# Altium footprint library Custom pcb footprint.PcbLib: 87 footprints (part 2 of 6)
Each footprint in its own frame and in the unit in brackets; x right, y up, seen from the top. Pads: shape width x height; smd on the part's side, far side on the other; paste and mask are expansions set on the pad; w line width, h text height; cw(c..) or ccw(c..) is an arc to the next point about the centre after c.
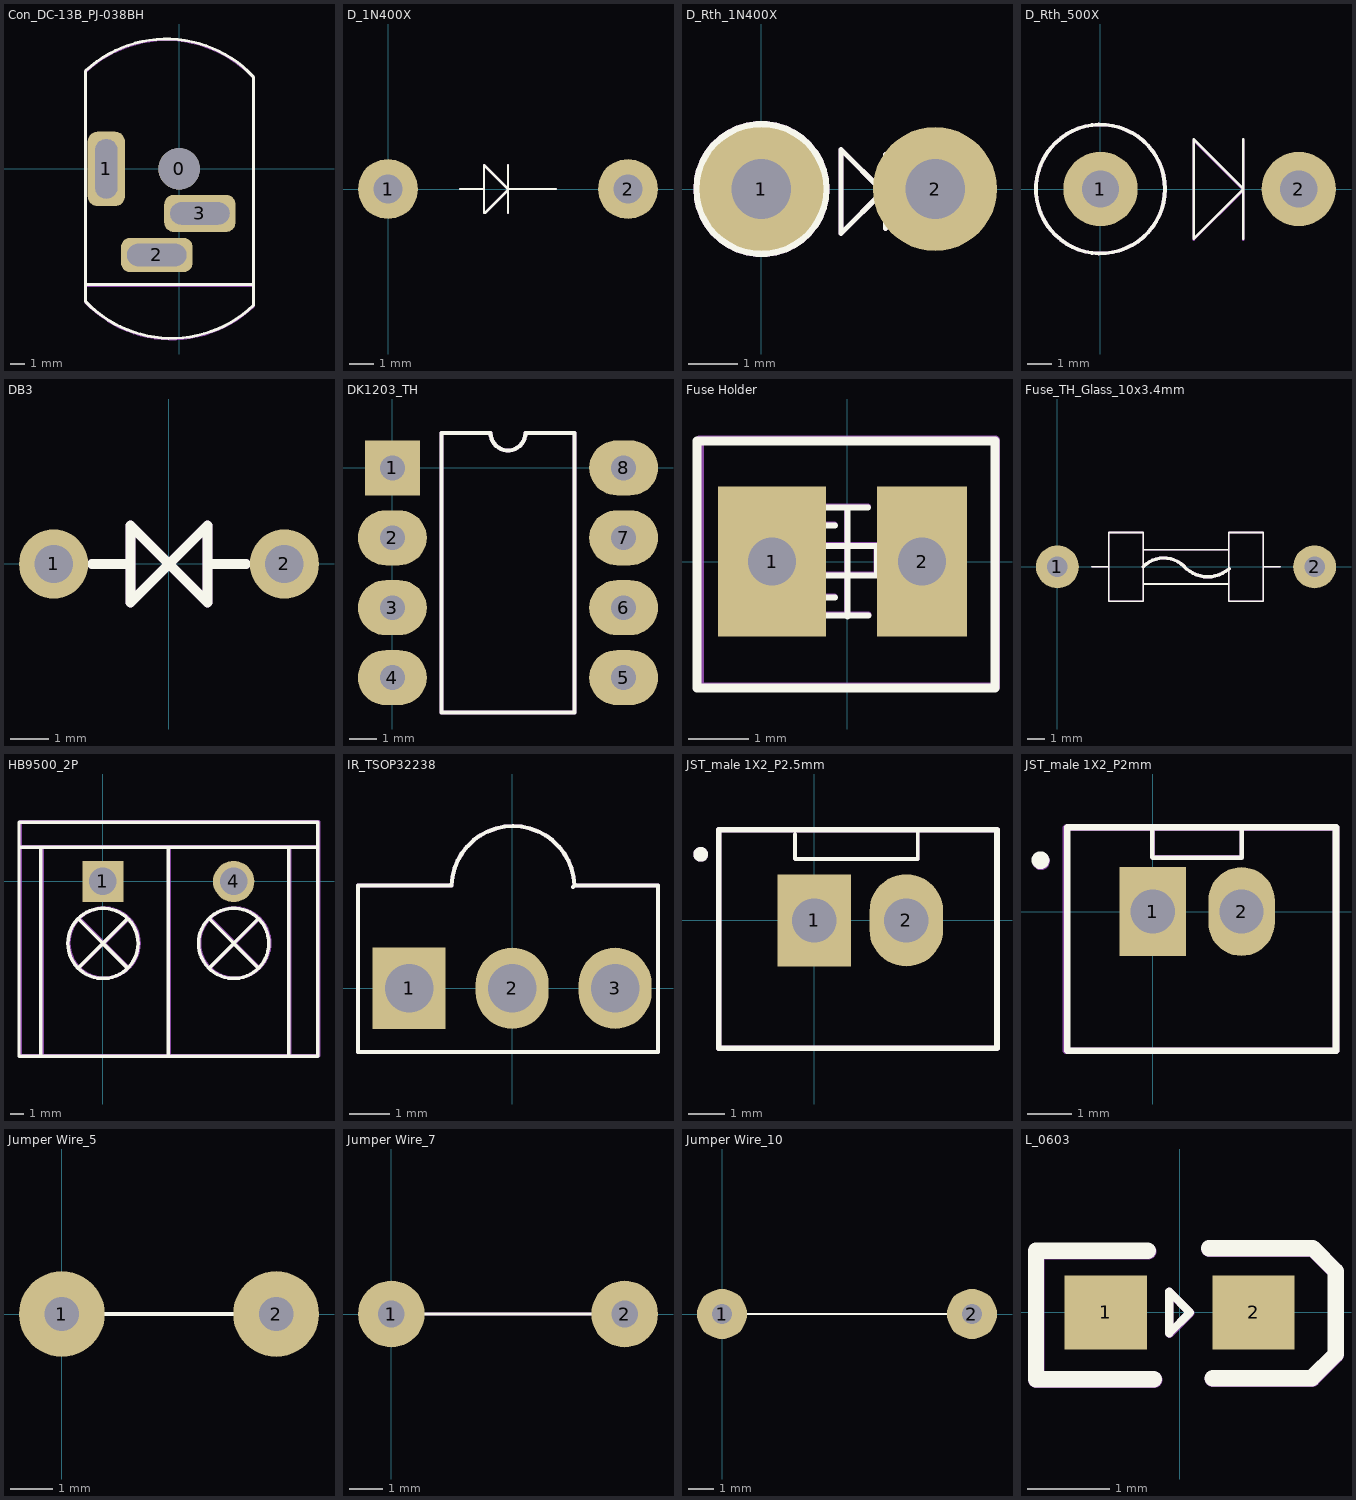
[diagram p1: the footprints below, top view; thin cyan lines are the x and y axes]

## Con_DC-13B_PJ-038BH [mm]
pads (4):
  round 2.8 hole 2.8: 0(0,0)
  rrect50% 2.5x5 hole 1.5 slot 4 at 90 deg: 1(-4.9,0)
  rrect50% 4.8x2.3 hole 1.5 slot 4 at 0 deg: 2(-1.5,-5.8)
  rrect50% 4.8x2.5 hole 1.5 slot 4 at 0 deg: 3(1.4,-3)
Top Overlay:
  lines w0.2: -6.2,-7.8 5,-7.8 ; -6.288,-8.94 ccw(c-0.514,-3.426) 5,-9.2 5,6.2 ccw(c-0.844,0.756) -6.288,6.6 -6.288,-8.94
Top Assembly:
  lines w0.2: -6.193,-7.846 5.007,-7.846 ; -6.281,-8.986 ccw(c-0.507,-3.472) 5.007,-9.246 5.007,6.154 ccw(c-0.837,0.71) -6.281,6.554 -6.281,-8.986
  text "'.Designator'" at -4.85,4.617 h0.8
3D body "Con_DC-13B_PJ-038BH.step": height 13.8, standoff -4, extent -5.2,-11.3 4.4,8.8

## D_1N400X [mm] "1N400X genral diode"
pads (2):
  round 2.5 hole 1.2: 1(0,0) 2(10,0)
Top Overlay:
  lines w0.1: 3,0 4,0 ; 5,-1 5,1 ; 7,0 5,0 ; 5,0 5,-0.039 4.039,-1 4,-1 4,1 5,0
Top Assembly:
  lines w0.1: 3,0 4,0 ; 5,-1 5,1 ; 7,0 5,0 ; 5,0 5,-0.039 4.039,-1 4,-1 4,1 5,0
  text "'.Designator'" at 4.736,-0.226 h0.8
3D body "1N4007.step": height 3, standoff -1.92, extent -0.43,-1.357 10.43,1.357

## D_Rth_1N400X [mm]
pads (2):
  round 2.5 hole 1.2: 1(0,0) 2(3.5,0)
Top Overlay:
  circle w0.15: c0,0 r1.3
  lines w0.1: 2.5,-0.8 2.5,0.7 ; 1.6,-0.9 2.45,-0.05 1.6,0.8 1.6,-0.9
Top Assembly:
  circle w0.15: c0,0 r1.3
  lines w0.1: 2.5,-0.8 2.5,0.7 ; 1.6,-0.9 2.45,-0.05 1.6,0.8 1.6,-0.9
  text "'.Designator'" at 2.338,-1.665 h0.8
3D body "D_Rth_1N400X.step": height 8.34, standoff -2, extent -1.24,-1.248 3.908,1.248

## D_Rth_500X [mm]
pads (2):
  round 3 hole 1.5: 1(0,0) 2(8,0)
Top Overlay:
  circle w0.15: c0,0 r2.6
  lines w0.1: 5.769,-1.999 5.769,2.001 ; 3.769,-1.999 5.769,0.001 3.769,2.001 3.769,-1.999
Top Assembly:
  circle w0.15: c0,0 r2.6
  lines w0.1: 5.762,-2.038 5.762,1.962 ; 3.762,-2.038 5.762,-0.038 3.762,1.962 3.762,-2.038
  text "'.Designator'" at 5.045,-3.379 h0.8
3D body "D_Rth_5000X.step": height 13.02, standoff -2, extent -2.514,-2.582 8.586,2.411

## DB3 [mm]
pads (2):
  round 1.8 hole 1: 1(-3,0) 2(3,0)
Top Overlay:
  lines w0.254: -2,0 -1,0 ; 1,0 2,0 ; -1,1 0,0 ; -1,1 -1,1 ; -1,1 -1,-1 0,0 ; 0,0 0,0 ; 0,0 1,1 1,-1 ; 0,0 0,0 ; 0,0 1,-1 ; 1,-1 1,-1
Top Assembly:
  lines w0.254: -2,0 -1,0 ; 1,0 2,0 ; -1,-1 0,0 ; -1,-1 -1,1 ; -1,-1 0,0 ; -1,-1 -1,1 ; -1,-1 0,0 ; -1,-1 -1,1 ; -1,1 0,0 ; -1,1 -1,1 ; -1,1 0,0 ; -1,1 -1,1 ; -1,1 0,0 ; -1,1 -1,1 ; 0,0 0,0 ; 0,0 1,-1 ; 0,0 0,0 ; 0,0 1,1 ; 0,0 0,0 ; 0,0 1,-1 ; 0,0 0,0 ; 0,0 1,1 ; 0,0 0,0 ; 0,0 1,1 ; 0,0 0,0 ; 0,0 1,-1 ; 1,-1 1,-1 ; 1,-1 1,1 ; 1,-1 1,-1 ; 1,-1 1,1 ; 1,-1 1,-1 ; 1,-1 1,1
  text "'.Designator'" at -2.246,-0.413 h1
3D body "DB3.step": height 2.45, standoff -2, extent -3.25,-0.95 3.248,0.95

## DK1203_TH [mm]
pads (8):
  rect 2x2 hole 0.9: 1(0,0)
  oval 2.5x2 hole 0.9: 2(0,-2.54) 3(0,-5.08) 4(0,-7.62) 5(8.4,-7.62) 6(8.4,-5.08) 7(8.4,-2.54) 8(8.4,0)
Top Overlay:
  lines w0.15: 1.785,-8.89 1.785,1.27 3.565,1.27 ccw(c4.2,1.27) 4.835,1.27 6.615,1.27 6.615,-8.89 1.785,-8.89
Top Assembly:
  lines w0.15: 1.785,-8.89 1.785,1.27 3.565,1.27 ccw(c4.2,1.27) 4.835,1.27 6.615,1.27 6.615,-8.89 1.785,-8.89
  text "'.Designator'" at 4.721,-7.328 h1.52

## Fuse Holder [mm] "P=2.5mm"
pads (2):
  rect 1.8x2.5 hole 0.8 square paste+0 mask+0.051: 1(-1.25,0)
  rect 1.5x2.5 hole 0.8 square paste+0 mask+0.051: 2(1.25,0)
Top Overlay:
  lines w0.1: -0.349,0.898 0.351,0.898 ; -0.338,-0.9 0.362,-0.9 ; -0.2,-0.6 -0.5,-0.6 -0.5,-0.228 ; -0.2,0.6 -0.5,0.6 -0.5,0.261 ; 0.004,-0.917 0.004,0.883 ; -0.5,-0.228 0.5,-0.228 0.5,0.261 -0.5,0.261 ; -0.5,-0.228 -0.5,0.2 -0.5,0.261
  lines w0.15: -2.5,-2.103 2.463,-2.103 2.463,2.007 -2.5,2.007 -2.5,-2.103
Top Assembly:
  lines w0.1: -0.353,0.915 0.347,0.915 ; -0.342,-0.883 0.358,-0.883 ; -0.204,-0.583 -0.504,-0.583 -0.504,-0.211 ; -0.204,0.617 -0.504,0.617 -0.504,0.278 ; 0,-0.9 0,0.9 ; -0.504,-0.211 0.496,-0.211 0.496,0.278 -0.504,0.278 ; -0.504,-0.211 -0.504,0.217 ; -0.504,0.217 -0.504,0.278 ; -0.504,0.217 -0.504,0.278
  lines w0.15: -2.456,-2.087 2.471,-2.087 2.471,2.023 -2.456,2.023 -2.456,-2.087
  text "'.Designator'" at 0.209,-2.079 h0.8
3D body "Fuse Holder P2.5mm.step": height 5.2, standoff -1.8, extent -1.229,-1.84 1.271,1.76

## Fuse_TH_Glass_10x3.4mm [mm] "Glass tube fuse TH 10x3.4 mm"
pads (2):
  round 2.5 hole 1.2: 1(0,0) 2(15,0)
Top Overlay:
  lines w0.1: 2,0 3,0 ; 5,-1 10,-1 ; 5,1 10,1 ; 12,0 13,0 ; 3,-2 5,-2 5,2 3,2 3,-2 ; 10,-2 12,-2 12,2 10,2 10,-2
  lines w0.2: 5,0 cw(c6.208,-1.159) 7.367,0.049 ccw(c8.769,1.291) 10.011,-0.111
Top Assembly:
  lines w0.1: 2,0 3,0 ; 5,-1 10,-1 ; 5,1 10,1 ; 12,0 13,0 ; 3,-2 5,-2 5,2 3,2 3,-2 ; 10,-2 12,-2 12,2 10,2 10,-2
  lines w0.2: 5,0 cw(c6.208,-1.159) 7.367,0.049 ccw(c8.769,1.291) 10.011,-0.111
  text "'.Designator'" at 4.143,-0.514 h0.8
3D body "250V 3A Fuse 10x3.4mm.step": height 4.2, standoff -1.5, extent -0.313,-1.605 15.185,1.795

## HB9500_2P [mm]
pads (2):
  rect 3x3 hole 2: 1(0,0)
  round 3 hole 2: 4(9.5,0)
Top Overlay:
  circle w0.254: c9.5,-4.5 r2.55
  circle w0.254: c0,-4.5 r2.55
  lines w0.254: -6.096,2.5 15.621,2.5 ; -4.5,-12.7 -4.5,2.5 ; -1.75,-6.25 1.75,-2.75 ; -1.75,-2.75 1.75,-6.25 ; 4.75,-12.7 4.75,2.5 ; 7.75,-6.25 11.25,-2.75 ; 7.75,-2.75 11.25,-6.25 ; 13.5,-12.7 13.5,2.5 ; -6.096,-12.7 15.621,-12.7 15.621,4.318 -6.096,4.318 -6.096,-12.7
Top Assembly:
  circle w0.254: c9.576,-4.48 r2.55
  circle w0.254: c0.076,-4.48 r2.55
  lines w0.254: -6.02,2.52 15.697,2.52 ; -4.424,-12.68 -4.424,2.52 ; -1.674,-6.23 1.826,-2.73 ; -1.674,-2.73 1.826,-6.23 ; 4.826,-12.68 4.826,2.52 ; 7.826,-6.23 11.326,-2.73 ; 7.826,-2.73 11.326,-6.23 ; 13.576,-12.68 13.576,2.52 ; -6.02,-12.68 15.697,-12.68 15.697,4.338 -6.02,4.338 -6.02,-12.68
  text "'.Designator'" at -2.404,-10.118 h1.52
3D body "hb9500_asm.stp": height 20.61, standoff -4.43, extent -5.614,-12.644 14.986,3.556

## IR_TSOP32238 [mm] "TH 2.7-5.5V P2.54"
pads (3):
  rect 1.8x2 hole 1.2: 1(-2.54,0)
  oval 1.8x2 hole 1.2: 2(0,0) 3(2.54,0)
Top Overlay:
  lines w0.1: 1.5,2.5 1.54,2.54 ; 1.54,2.54 ccw(c0.02,2.479) -1.5,2.54 -3.803,2.54 -3.803,-1.571 3.598,-1.571 3.598,2.54 1.54,2.54
Top Assembly:
  lines w0.1: 1.5,2.5 1.54,2.54 ; 1.54,2.54 ccw(c0.02,2.479) -1.5,2.54 -3.803,2.54 -3.803,-1.571 3.598,-1.571 3.598,2.54 1.54,2.54
  text "'.Designator'" at -1.192,1.408 h0.8
3D body "IR_TSOP32238.step": height 11.47, standoff -5.47, extent -2.981,-1.539 3.019,4.061

## JST_male 1X2_P2.5mm [mm] "2.5mm Pitch"
pads (2):
  rect 2x2.5 hole 1.2: 1(0,0)
  oval 2x2.5 hole 1.2: 2(2.5,0)
Top Overlay:
  circle w0.2: c-3.083,1.794 r0.1
  lines w0.1: -0.52,2.333 -0.52,1.674 -0.513,1.668 2.812,1.668 2.812,2.364
  lines w0.15: -2.596,-3.471 -2.596,2.459 4.963,2.459 4.963,-3.471 -2.596,-3.471
Top Assembly:
  circle w0.2: c-3.083,1.794 r0.1
  lines w0.1: -0.52,2.333 -0.52,1.674 -0.513,1.668 2.812,1.668 2.812,2.364
  lines w0.15: -2.596,-3.471 -2.596,2.459 4.963,2.459 4.963,-3.471 -2.596,-3.471
  text "'.Designator'" at -1.52,-2.416 h0.7
3D body "B2B-XH-A.step": height 7.2, standoff -3.2, extent -2.499,-3.383 4.901,2.367

## JST_male 1X2_P2mm [mm] "2mm Pitch"
pads (2):
  rect 1.5x2 hole 1: 1(0,0)
  oval 1.5x2 hole 1: 2(2,0)
Top Overlay:
  circle w0.2: c-2.536,1.159 r0.1
  lines w0.1: -0.009,1.881 -0.009,1.223 -0.002,1.216 2.009,1.216 2.002,1.224 2.002,1.884
  lines w0.15: -1.93,-3.141 4.132,-3.141 4.132,1.902 -1.93,1.902 -1.93,-3.141
Top Assembly:
  circle w0.2: c-2.525,1.138 r0.1
  lines w0.1: 0.001,1.897 0.001,1.212 0.01,1.221 1.992,1.221 2.01,1.239 2.01,1.879
  lines w0.15: -1.962,-3.141 4.132,-3.141 4.132,1.892 -1.962,1.892 -1.962,-3.141
  text "'.Designator'" at -1.423,-2.374 h0.7
3D body "JST - PH - Thru (V) - 2Pin - 2.00mm.stp": height 6.09, standoff -2.85, extent -1.819,-3.016 4.042,1.658

## Jumper Wire_5 [mm] "5 mm"
pads (2):
  round 2 hole 0.8: 1(0,0) 2(5,0)
Top Overlay:
  lines w0.1: 0.753,0 4.105,0
Top Assembly:
  lines w0.1: 0.753,0 4.105,0
  text "'.Designator'" at 0.718,0.365 h0.5
3D body "Jumper wire 5mm.step": height 1.02, standoff -2.2, extent -0.223,-0.225 5.223,0.225

## Jumper Wire_7 [mm] "7 mm"
pads (2):
  round 2 hole 0.8: 1(0,0) 2(7,0)
Top Overlay:
  lines w0.1: 0.716,0 1,0 6,0 6.236,0
Top Assembly:
  lines w0.1: 0.716,0 1,0 6,0 6.236,0
  text "'.Designator'" at 1.177,0.56 h0.8
3D body "Jumper Wire 7mm.step": height 0.72, standoff -2, extent -0.223,-0.225 7.223,0.225

## Jumper Wire_10 [mm] "10 mm"
pads (2):
  round 2 hole 0.8: 1(0,0) 2(10,0)
Top Overlay:
  lines w0.1: 0.753,0 9.123,0
Top Assembly:
  lines w0.1: 0.753,0 9.11,0
  text "'.Designator'" at 2.268,0.479 h0.5
3D body "Jumper Wire 10mm.step": height 0.72, standoff -2, extent -0.223,-0.225 10.223,0.225

## L_0603 [mm] "SMD LED"
pads (2):
  rect 1x0.9 smd: 1(-0.9,0) 2(0.9,0)
Top Overlay:
  lines w0.1: -0.127,-0.254 0.127,0 -0.127,0.254 -0.127,-0.254
  lines w0.2: -0.388,0.75 -1.75,0.75 -1.75,-0.814 -0.316,-0.814 ; 0.357,0.783 1.62,0.783 1.9,0.502 1.9,-0.508 1.608,-0.8 0.4,-0.8
Top Assembly:
  lines w0.1: -0.127,-0.254 0.127,0 -0.127,0.254 -0.127,-0.254 ; -0.123,-0.262 0.131,-0.008 -0.123,0.246 -0.123,-0.262
  lines w0.2: -0.384,0.742 -1.746,0.742 -1.746,-0.822 -0.312,-0.822 ; 0.36,0.774 1.623,0.774 1.904,0.494 1.904,-0.517 1.612,-0.808 0.404,-0.808
  text "'.Designator'" at 0.066,-0.7 h0.5
3D body "0603 Green.step": height 0.55, standoff 0, extent -0.8,-0.4 0.8,0.4